# Altium footprint library PCB库2.PcbLib: 108 footprints (part 7 of 7)
Each footprint in its own frame and in the unit in brackets; x right, y up, seen from the top. Pads: shape width x height; smd on the part's side, far side on the other; paste and mask are expansions set on the pad; w line width, h text height; cw(c..) or ccw(c..) is an arc to the next point about the centre after c.
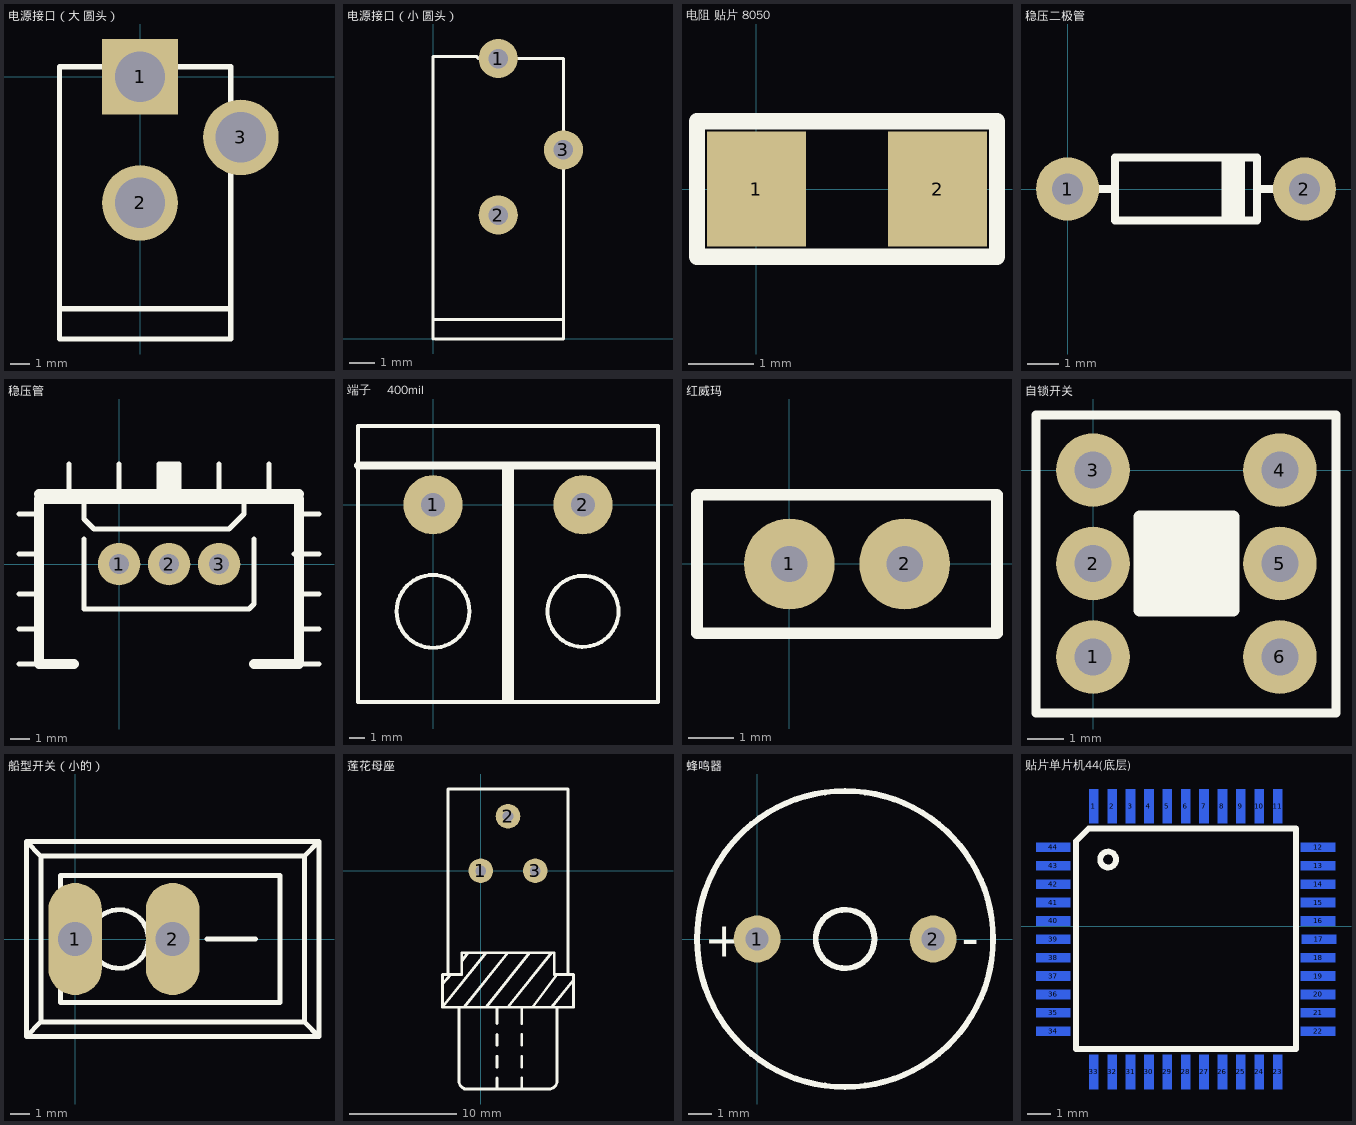
[diagram p6: the footprints below, top view; thin cyan lines are the x and y axes]

## 电源接口（大 圆头） [mil]
pads (3):
  rect 150x150 hole 100: 1(0,0)
  round 150 hole 100: 2(0,-250) 3(200,-120)
Top Overlay:
  lines w10: -160,-460 180,-460 ; -160,-520 180,-520 180,20 -160,20 -160,-520

## 电源接口（小 圆头） [mil]
pads (3):
  round 60 hole 30: 1(100,430) 2(100,190) 3(200,290)
Top Overlay:
  lines w5: 0,0 0,433.07 66.93,433.07 70,430 ; 0,30 198.62,30 200,31.38 ; 3.15,0 200,0 200,260 ; 130,430 200,430 200,320 ; 200,260 200,260

## 电阻 贴片 8050 [mil]
pads (2):
  rect 60x70 all layers, no hole: 1(0,0) 2(110,0)
Top Overlay:
  lines w10: -36,-41 146,-41 146,41 -36,41 -36,-41

## 稳压二极管 [mil]
pads (2):
  round 80 hole 39.37: 1(0,0) 2(300,0)
Top Overlay:
  lines w10: 0,0 60,0 ; 200,40 200,-40 220,-40 ; 210,-40 210,40 220,40 220,-40 ; 230,-40 220,-40 ; 240,0 300,0 ; 60,0 60,-40 240,-40 240,40 60,40 60,0

## 稳压管 [mil]
pads (3):
  round 85 hole 40: 1(0,0) 2(100,0) 3(200,0)
Top Overlay:
  lines w10: -200,-200 -160,-200 ; -200,-130 -160,-130 ; -200,-60 -160,-60 ; -200,20 -160,20 ; -200,100 -160,100 ; -160,130 -160,140 ; -100,130 -100,200 ; -70,50 -70,-90 260,-90 270,-80 270,50 ; -70,120 -70,90 -50,70 220,70 250,100 250,130 ; 0,130 0,200 ; 80,150 80,200 120,200 120,140 110,150 100,150 100,180 110,190 100,190 ; 90,130 90,200 110,200 ; 100,140 100,200 ; 110,130 110,200 ; 200,140 200,200 ; 300,130 300,200 ; 350,20 400,20 ; 360,-200 400,-200 ; 360,-130 400,-130 ; 360,-60 400,-60 ; 360,100 400,100 ; 100,160 100,190 ; 100,160 110,160 100,170 110,180 110,170 100,160 ; 100,160 100,190 ; 100,190 110,200
  lines w20: -160,140 360,140 ; -90,-200 -160,-200 -160,130 360,130 360,-200 270,-200

## 端子    400mil [mil]
pads (2):
  round 150 hole 60: 1(0,0) 2(380,0)
Top Overlay:
  circle w10: c0,-270 r92.2
  circle w10: c380,-270 r90
  lines w10: -190,-500 570,-500 570,200 -190,200 -190,-500
  lines w20: -190,100 560,100
  lines w30: 190,-490 190,90

## 红威玛 [mm]
pads (2):
  round 2 hole 0.8: 1(0,0) 2(2.54,0)
Top Overlay:
  lines w0.254: -2.032,-1.524 -2.032,1.524 4.572,1.524 4.572,-1.524 -2.032,-1.524

## 自锁开关 [mm]
pads (6):
  round 2 hole 1: 1(0,-5.08) 2(0,-2.54) 3(0,0) 4(5.08,0) 5(5.08,-2.54) 6(5.08,-5.08)
Top Overlay:
  rectangle: 1.27,-3.81 3.81,-1.27
  lines w0.254: -1.549,-6.604 6.604,-6.604 6.604,1.499 -1.549,1.499 -1.549,-6.604
  lines w0.35: 1.27,-3.81 3.81,-3.81 3.81,-1.27 1.27,-1.27 1.27,-3.81

## 船型开关（小的） [mil]
pads (2):
  oval 110x230 hole 70: 1(0,0) 2(200,0)
Top Overlay:
  circle w10: c90,0 r60
  lines w10: 270,0 370,0 ; -100,-200 500,-200 ; -100,-200 -100,200 ; -100,-200 -70,-170 ; -100,-200 -70,-170 ; -100,200 500,200 ; -100,200 -70,170 ; -70,-170 470,-170 ; -70,-170 -70,170 ; -70,170 470,170 ; 470,-170 470,170 ; 470,-170 500,-200 ; 470,-170 500,-200 ; 470,170 500,200 ; 500,-200 500,-110 500,200 ; -30,-130 420,-130 420,130 -30,130 -30,-130

## 莲花母座 [mil]
pads (3):
  round 90 hole 40: 1(0,0) 2(100,200) 3(200,0)
Top Overlay:
  lines w10: -140,-415 -110,-380 ; -120,-380 -120,300 100,300 320,300 320,-380 ; -80,-500 -80,-770 ccw(c-50,-770) -50,-800 ; -70,-330 -46,-300 ; -60,-800 250,-800 ccw(c250,-770) 280,-770 280,-500 ; -60,-500 100,-300 ; 20,-500 180,-300 ; 20,-300 -140,-500 ; 60,-800 60,-760 ; 60,-720 60,-680 ; 60,-640 60,-600 ; 60,-560 60,-500 ; 100,-500 260,-300 ; 150,-800 150,-760 ; 150,-720 150,-680 ; 150,-640 150,-600 ; 150,-560 150,-500 ; 190,-500 280,-380 ; 260,-500 340,-400 ; -140,-500 -140,-380 -70,-380 -70,-300 270,-300 270,-380 340,-380 340,-500 -140,-500

## 蜂鸣器 [mil]
pads (2):
  round 80 hole 39: 1(0,0) 2(300,0)
Top Overlay:
  circle w10: c150,0 r50
  circle w10: c150,0 r252.39
  text "-" at 349,-28 h60
  text "+" at -90,-30 h60

## 贴片单片机44(底层) [mm]
pads (44):
  rect 0.4x1.5 smd far side: 1(8.065,5.22) 2(8.865,5.22) 3(9.665,5.22) 4(10.465,5.22) 5(11.265,5.22) 6(12.065,5.22) 7(12.865,5.22) 8(13.665,5.22) 9(14.465,5.22) 10(15.265,5.22) 11(16.065,5.22) 23(16.065,-6.337) 24(15.265,-6.337) 25(14.465,-6.337) 26(13.665,-6.337) 27(12.865,-6.337) 28(12.065,-6.337) 29(11.265,-6.337) 30(10.465,-6.337) 31(9.665,-6.337) 32(8.865,-6.337) 33(8.065,-6.337)
  rect 1.5x0.4 smd far side: 12(17.831,3.429) 13(17.831,2.629) 14(17.831,1.829) 15(17.831,1.029) 16(17.831,0.229) 17(17.856,-0.571) 18(17.831,-1.371) 19(17.831,-2.171) 20(17.831,-2.971) 21(17.831,-3.771) 22(17.831,-4.571) 34(6.299,-4.571) 35(6.299,-3.771) 36(6.299,-2.971) 37(6.299,-2.171) 38(6.299,-1.371) 39(6.299,-0.571) 40(6.299,0.229) 41(6.299,1.029) 42(6.299,1.829) 43(6.299,2.629) 44(6.299,3.429)
Top Overlay:
  circle w0.254: c8.687,2.899 r0.346
  lines w0.254: 7.29,-5.34 7.29,3.696 7.849,4.255 7.925,4.255 16.86,4.255 16.86,-5.34 16.739,-5.346 7.296,-5.346